# Altium footprint library PcbLib1.PcbLib: 95 footprints (part 4 of 6)
Each footprint in its own frame and in the unit in brackets; x right, y up, seen from the top. Pads: shape width x height; smd on the part's side, far side on the other; paste and mask are expansions set on the pad; w line width, h text height; cw(c..) or ccw(c..) is an arc to the next point about the centre after c.
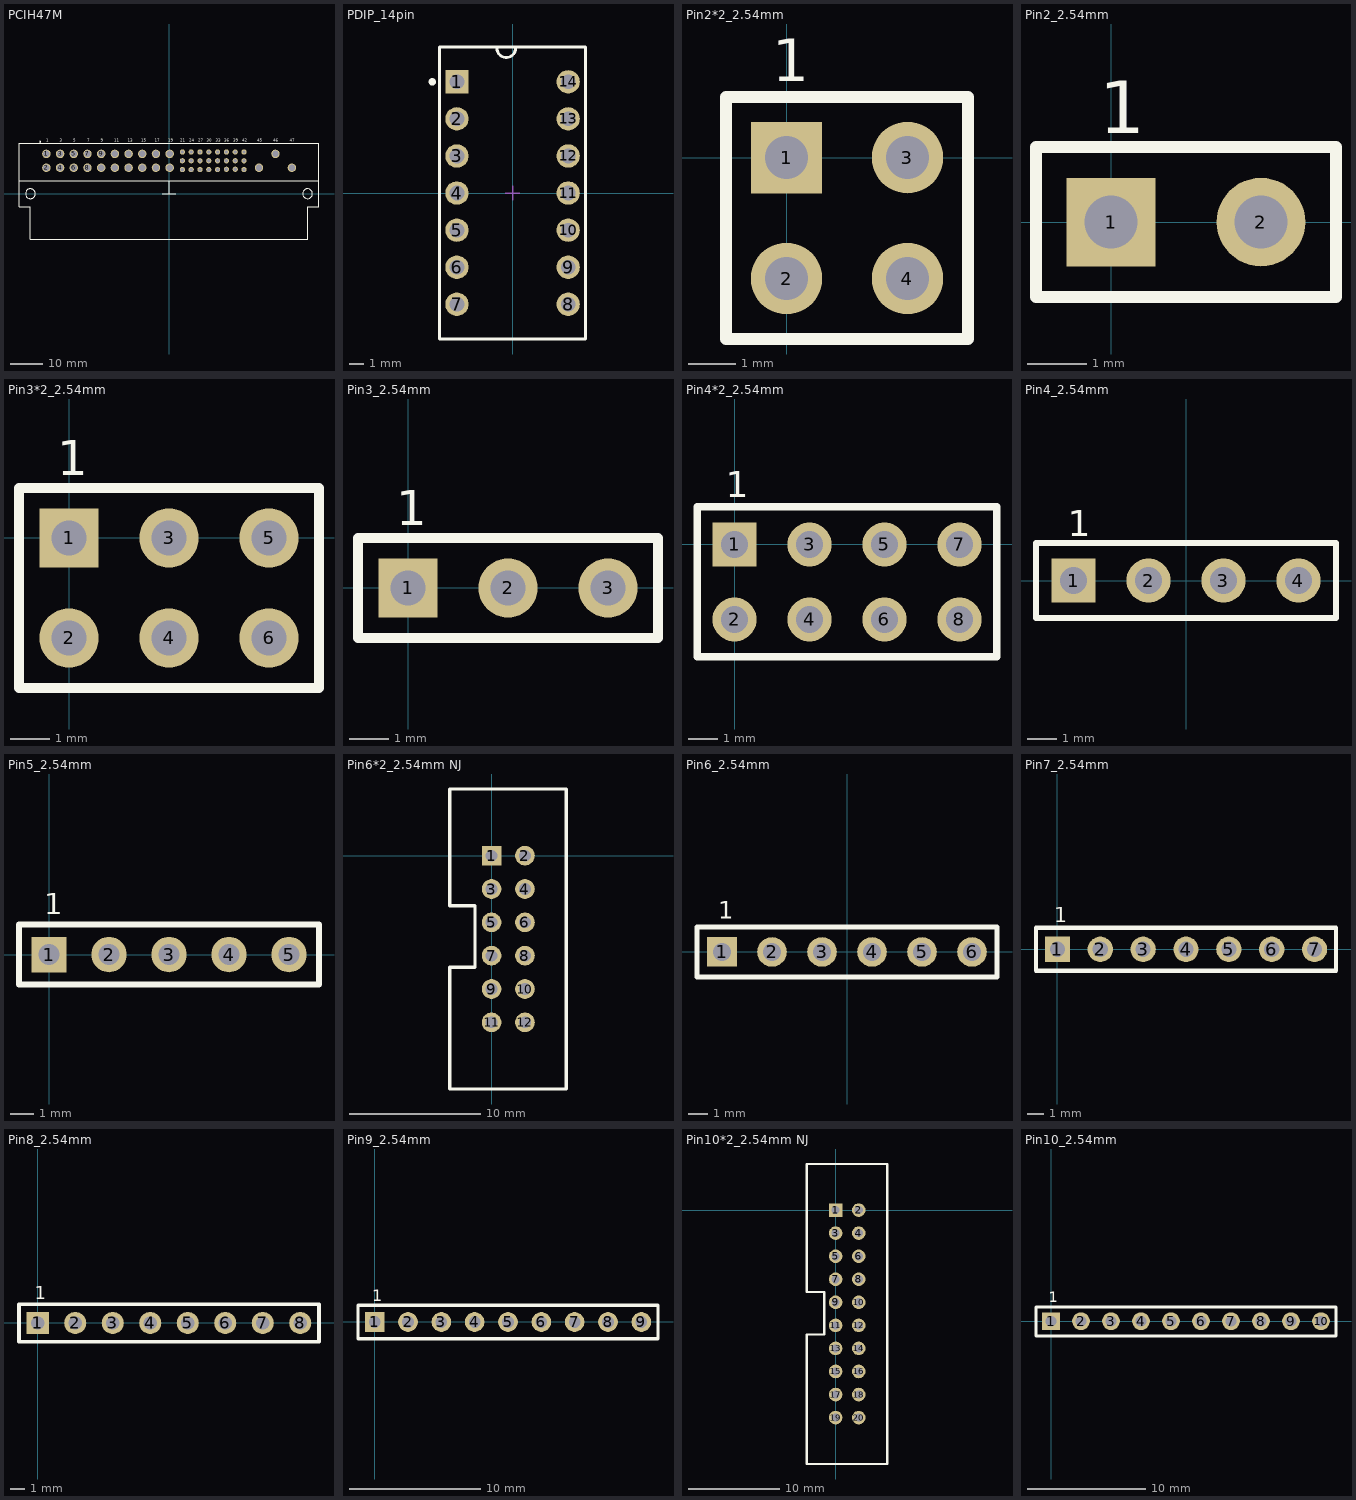
[diagram p3: the footprints below, top view; thin cyan lines are the x and y axes]

## PCIH47M [mm]
pads (47):
  round 2.6 hole 1.93: 1(-37.6,12.21) 2(-37.6,7.96) 3(-33.4,12.21) 4(-33.4,7.96) 5(-29.2,12.21) 6(-29.2,7.96) 7(-25,12.21) 8(-25,7.96) 9(-20.8,12.21) 10(-20.8,7.96) 11(-16.6,12.21) 12(-16.6,7.96) 13(-12.4,12.21) 14(-12.4,7.96) 15(-8.2,12.21) 16(-8.2,7.96) 17(-4,12.21) 18(-4,7.96) 19(0.2,12.21) 20(0.2,7.96) 45(27.6,7.96) 46(32.65,12.21) 47(37.7,7.96)
  round 1.6 hole 1.04: 21(4.1,12.79) 22(4.1,10.09) 23(4.1,7.39) 24(6.8,12.79) 25(6.8,10.09) 26(6.8,7.39) 27(9.5,12.79) 28(9.5,10.09) 29(9.5,7.39) 30(12.2,12.79) 31(12.2,10.09) 32(12.2,7.39) 33(14.9,12.79) 34(14.9,10.09) 35(14.9,7.39) 36(17.6,12.79) 37(17.6,10.09) 38(17.6,7.49) 39(20.3,12.79) 40(20.3,10.09) 41(20.3,7.49) 42(23,12.79) 43(23,10.09) 44(23,7.39)
Top Overlay:
  circle w0.254: c42.5,0 r1.5
  circle w0.254: c-42.5,0 r1.5
  circle w0.254: c-39.522,15.9 r0.127
  lines w0.254: -46,4 46,4 ; -2,0 2,0 ; 0,0 0,4 ; -46,-4 -42.5,-4 -42.5,-14 42.5,-14 42.5,-4 46,-4 46,15.5 -46,15.5 -46,-4
  text "1" at -37.6,16 h0.89
  text "3" at -33.444,16 h0.89
  text "5" at -29.289,16 h0.89
  text "7" at -25.133,16 h0.89
  text "9" at -20.978,16 h0.89
  text "11" at -16.822,16 h0.89
  text "13" at -12.667,16 h0.89
  text "15" at -8.511,16 h0.89
  text "17" at -4.356,16 h0.89
  text "19" at -0.2,16 h0.89
  text "21" at 3.5,16 h0.89
  text "24" at 6.2,16 h0.89
  text "27" at 8.9,16 h0.89
  text "30" at 11.6,16 h0.89
  text "33" at 14.3,16 h0.89
  text "36" at 17,16 h0.89
  text "39" at 19.7,16 h0.89
  text "42" at 22.4,16 h0.89
  text "46" at 32,16 h0.89
  text "45" at 27,16 h0.89
  text "47" at 37,16 h0.89

## PDIP_14pin [mm] "W7.62mm"
height 5
pads (14):
  rect 1.6x1.6 hole 1: 1(-3.81,7.62)
  round 1.6 hole 1: 2(-3.81,5.08) 3(-3.81,2.54) 4(-3.81,0) 5(-3.81,-2.54) 6(-3.81,-5.08) 7(-3.81,-7.62) 8(3.81,-7.62) 9(3.81,-5.08) 10(3.81,-2.54) 11(3.81,0) 12(3.81,2.54) 13(3.81,5.08) 14(3.81,7.62)
Top Overlay:
  circle w0.25: c-5.5,7.62 r0.125
  lines w0.2: -1.067,9.92 ccw(c-0.432,9.92) 0.203,9.92 ; -5,-10 5,-10 5,10 -5,10 -5,-10
Mechanical 15:
  lines w0.1: -0.5,0 0.5,0 ; 0,-0.5 0,0.5
3D body: height 2, standoff 0, extent -3.81,-9.779 3.81,9.881

## Pin2*2_2.54mm [mm]
pads (4):
  rect 1.5x1.5 hole 0.9: 1(0,0)
  round 1.5 hole 0.9: 2(0,-2.54) 3(2.54,0) 4(2.54,-2.54)
Top Overlay:
  lines w0.254: -1.27,-3.81 3.81,-3.81 3.81,1.27 -1.27,1.27 -1.27,-3.81
  text "1" at -0.3,1.6 h0.89
3D body: height 8, standoff -3, extent 2.286,-2.794 2.794,-2.286
3D body: height 8, standoff -3, extent -0.254,-2.794 0.254,-2.286
3D body: height 8, standoff -3, extent 2.286,-0.254 2.794,0.254
3D body: height 8, standoff -3, extent -0.254,-0.254 0.254,0.254
3D body: height 2.5, standoff 0, extent -1.016,-3.556 3.556,1.016

## Pin2_2.54mm [mm]
pads (2):
  rect 1.5x1.5 hole 0.9: 1(0,0)
  round 1.5 hole 0.9: 2(2.54,0)
Top Overlay:
  lines w0.2: -1.27,-1.27 3.81,-1.27 3.81,1.27 -1.27,1.27 -1.27,-1.27
  text "1" at -0.2,1.5 h0.89
3D body: height 2.5, standoff 0, extent -1.143,-1.143 3.683,1.143
3D body: height 8, standoff -3, extent -0.254,-0.254 0.254,0.254
3D body: height 8, standoff -3, extent 2.286,-0.254 2.794,0.254

## Pin3*2_2.54mm [mm]
pads (6):
  rect 1.5x1.5 hole 0.9: 1(0,0)
  round 1.5 hole 0.9: 2(0,-2.54) 3(2.54,0) 4(2.54,-2.54) 5(5.08,0) 6(5.08,-2.54)
Top Overlay:
  lines w0.254: -1.27,-3.81 6.35,-3.81 6.35,1.27 -1.27,1.27 -1.27,-3.81
  text "1" at -0.3,1.6 h0.89
3D body: height 8, standoff -3, extent 4.826,-2.794 5.334,-2.286
3D body: height 8, standoff -3, extent 2.286,-2.794 2.794,-2.286
3D body: height 8, standoff -3, extent -0.254,-2.794 0.254,-2.286
3D body: height 8, standoff -3, extent 4.826,-0.254 5.334,0.254
3D body: height 8, standoff -3, extent 2.286,-0.254 2.794,0.254
3D body: height 8, standoff -3, extent -0.254,-0.254 0.254,0.254
3D body: height 2.5, standoff 0, extent -1.016,-3.556 6.096,1.016

## Pin3_2.54mm [mm]
pads (3):
  rect 1.5x1.5 hole 0.9: 1(0,0)
  round 1.5 hole 0.9: 2(2.54,0) 3(5.08,0)
Top Overlay:
  lines w0.254: -1.27,-1.27 -1.27,1.27 6.35,1.27 6.35,-1.27 -1.27,-1.27
  text "1" at -0.3,1.6 h0.89
3D body: height 8, standoff -3, extent 4.826,-0.254 5.334,0.254
3D body: height 8, standoff -3, extent 2.286,-0.254 2.794,0.254
3D body: height 8, standoff -3, extent -0.254,-0.254 0.254,0.254
3D body: height 2.5, standoff 0, extent -1.016,-1.016 6.096,1.016

## Pin4*2_2.54mm [mm]
pads (8):
  rect 1.5x1.5 hole 0.9: 1(0,0)
  round 1.5 hole 0.9: 2(0,-2.54) 3(2.54,0) 4(2.54,-2.54) 5(5.08,0) 6(5.08,-2.54) 7(7.62,0) 8(7.62,-2.54)
Top Overlay:
  lines w0.254: -1.27,-3.81 -1.27,1.27 8.89,1.27 8.89,-3.81 -1.27,-3.81
  text "1" at -0.3,1.6 h0.89
3D body: height 8, standoff -3, extent 7.366,-2.794 7.874,-2.286
3D body: height 8, standoff -3, extent 7.366,-0.254 7.874,0.254
3D body: height 2.5, standoff 0, extent -1.016,-3.556 8.636,1.016
3D body: height 8, standoff -3, extent -0.254,-0.254 0.254,0.254
3D body: height 8, standoff -3, extent 2.286,-0.254 2.794,0.254
3D body: height 8, standoff -3, extent 4.826,-0.254 5.334,0.254
3D body: height 8, standoff -3, extent -0.254,-2.794 0.254,-2.286
3D body: height 8, standoff -3, extent 2.286,-2.794 2.794,-2.286
3D body: height 8, standoff -3, extent 4.826,-2.794 5.334,-2.286

## Pin4_2.54mm [mm]
pads (4):
  rect 1.5x1.5 hole 0.9: 1(-3.81,0)
  round 1.5 hole 0.9: 2(-1.27,0) 3(1.27,0) 4(3.81,0)
Top Overlay:
  lines w0.2: -5.08,-1.27 5.08,-1.27 5.08,1.27 -5.08,1.27 -5.08,-1.27
  text "1" at -4.01,1.5 h0.89
3D body: height 8, standoff -3, extent -4.064,-0.254 -3.556,0.254
3D body: height 8, standoff -3, extent -1.524,-0.254 -1.016,0.254
3D body: height 8, standoff -3, extent 1.016,-0.254 1.524,0.254
3D body: height 8, standoff -3, extent 3.556,-0.254 4.064,0.254
3D body: height 2.5, standoff 0, extent -4.826,-1.143 4.826,1.143

## Pin5_2.54mm [mm]
pads (5):
  rect 1.5x1.5 hole 0.9: 1(0,0)
  round 1.5 hole 0.9: 2(2.54,0) 3(5.08,0) 4(7.62,0) 5(10.16,0)
Top Overlay:
  lines w0.254: -1.27,-1.27 -1.27,1.27 11.43,1.27 11.43,-1.27 -1.27,-1.27
  text "1" at -0.2,1.7 h0.89
3D body: height 2.5, standoff 0, extent -1.016,-1.016 11.176,1.016
3D body: height 8, standoff -3, extent -0.254,-0.254 0.254,0.254
3D body: height 8, standoff -3, extent 2.286,-0.254 2.794,0.254
3D body: height 8, standoff -3, extent 4.826,-0.254 5.334,0.254
3D body: height 8, standoff -3, extent 7.366,-0.254 7.874,0.254
3D body: height 8, standoff -3, extent 9.906,-0.254 10.414,0.254

## Pin6*2_2.54mm NJ [mm]
pads (12):
  rect 1.5x1.5 hole 0.9: 1(0,0)
  round 1.5 hole 0.9: 2(2.54,0) 3(0,-2.54) 4(2.54,-2.54) 5(0,-5.08) 6(2.54,-5.08) 7(0,-7.62) 8(2.54,-7.62) 9(0,-10.16) 10(2.54,-10.16) 11(0,-12.7) 12(2.54,-12.7)
Top Overlay:
  lines w0.254: -3.2,-17.78 -3.2,-8.493 -1.27,-8.493 -1.27,-3.81 -3.2,-3.81 -3.2,5.08 5.7,5.08 5.7,-17.78 -3.2,-17.78
3D body: height 8, standoff -3, extent -0.279,-0.254 0.28,0.254
3D body: height 8, standoff -3, extent 2.261,-2.794 2.819,-2.286
3D body: height 8, standoff -3, extent 2.261,-0.254 2.819,0.254
3D body: height 8, standoff -3, extent -0.279,-2.794 0.279,-2.286
3D body: height 8, standoff -3, extent -0.279,-5.334 0.279,-4.826
3D body: height 8, standoff -3, extent 2.261,-5.334 2.819,-4.826
3D body: height 8, standoff -3, extent -0.279,-7.874 0.279,-7.366
3D body: height 8, standoff -3, extent 2.261,-7.874 2.819,-7.366
3D body: height 8, standoff -3, extent 2.261,-10.414 2.819,-9.906
3D body: height 8, standoff -3, extent -0.279,-10.414 0.28,-9.906
3D body: height 8, standoff -3, extent -0.279,-12.954 0.279,-12.446
3D body: height 8, standoff -3, extent 2.261,-12.954 2.82,-12.446

## Pin6_2.54mm [mm]
pads (6):
  rect 1.5x1.5 hole 0.9: 1(-6.35,0)
  round 1.5 hole 0.9: 2(-3.81,0) 3(-1.27,0) 4(1.27,0) 5(3.81,0) 6(6.35,0)
Top Overlay:
  lines w0.254: -7.62,-1.27 -7.62,1.27 7.62,1.27 7.62,-1.27 -7.62,-1.27
  text "1" at -6.55,1.7 h0.89
3D body: height 2.5, standoff 0, extent -7.366,-1.016 7.366,1.016
3D body: height 8, standoff -3, extent -6.604,-0.254 -6.096,0.254
3D body: height 8, standoff -3, extent -4.064,-0.254 -3.556,0.254
3D body: height 8, standoff -3, extent -1.524,-0.254 -1.016,0.254
3D body: height 8, standoff -3, extent 1.016,-0.254 1.524,0.254
3D body: height 8, standoff -3, extent 3.556,-0.254 4.064,0.254
3D body: height 8, standoff -3, extent 6.096,-0.254 6.604,0.254

## Pin7_2.54mm [mm]
pads (7):
  rect 1.5x1.5 hole 0.9: 1(0,0)
  round 1.5 hole 0.9: 2(2.54,0) 3(5.08,0) 4(7.62,0) 5(10.16,0) 6(12.7,0) 7(15.24,0)
Top Overlay:
  lines w0.254: -1.27,-1.27 -1.27,1.27 16.51,1.27 16.51,-1.27 -1.27,-1.27
  text "1" at -0.2,1.6 h0.89
3D body: height 8, standoff -3, extent -0.254,-0.254 0.254,0.254
3D body: height 8, standoff -3, extent 2.286,-0.254 2.794,0.254
3D body: height 8, standoff -3, extent 4.826,-0.254 5.334,0.254
3D body: height 8, standoff -3, extent 7.366,-0.254 7.874,0.254
3D body: height 8, standoff -3, extent 9.906,-0.254 10.414,0.254
3D body: height 8, standoff -3, extent 12.446,-0.254 12.954,0.254
3D body: height 8, standoff -3, extent 14.986,-0.254 15.494,0.254
3D body: height 2.5, standoff 0, extent -1.016,-1.016 16.256,1.016

## Pin8_2.54mm [mm]
pads (8):
  rect 1.5x1.5 hole 0.9: 1(0,0)
  round 1.5 hole 0.9: 2(2.54,0) 3(5.08,0) 4(7.62,0) 5(10.16,0) 6(12.7,0) 7(15.24,0) 8(17.78,0)
Top Overlay:
  lines w0.254: -1.27,-1.27 19.05,-1.27 19.05,1.27 -1.27,1.27 -1.27,-1.27
  text "1" at -0.2,1.6 h0.89
3D body: height 8, standoff -3, extent 14.884,-0.305 15.392,0.203
3D body: height 2.5, standoff 0, extent -1.016,-1.041 18.847,1.016
3D body: height 8, standoff -3, extent 17.526,-0.254 18.034,0.254
3D body: height 8, standoff -3, extent 12.446,-0.254 12.954,0.254
3D body: height 8, standoff -3, extent 9.906,-0.254 10.414,0.254
3D body: height 8, standoff -3, extent 7.366,-0.254 7.874,0.254
3D body: height 8, standoff -3, extent 4.826,-0.254 5.334,0.254
3D body: height 8, standoff -3, extent 2.286,-0.254 2.794,0.254
3D body: height 8, standoff -3, extent -0.254,-0.254 0.254,0.254

## Pin9_2.54mm [mm]
pads (9):
  rect 1.5x1.5 hole 0.9: 1(0,0)
  round 1.5 hole 0.9: 2(2.54,0) 3(5.08,0) 4(7.62,0) 5(10.16,0) 6(12.7,0) 7(15.24,0) 8(17.78,0) 9(20.32,0)
Top Overlay:
  lines w0.254: -1.27,-1.27 -1.27,1.27 21.59,1.27 21.59,-1.27 -1.27,-1.27
  text "1" at -0.2,1.6 h0.89
3D body: height 8, standoff -3, extent 20.066,-0.254 20.574,0.254
3D body: height 8, standoff -3, extent 17.526,-0.254 18.034,0.254
3D body: height 8, standoff -3, extent 14.986,-0.254 15.494,0.254
3D body: height 8, standoff -3, extent 12.446,-0.254 12.954,0.254
3D body: height 8, standoff -3, extent 9.906,-0.254 10.414,0.254
3D body: height 8, standoff -3, extent 7.366,-0.254 7.874,0.254
3D body: height 8, standoff -3, extent 4.826,-0.254 5.334,0.254
3D body: height 8, standoff -3, extent 2.286,-0.254 2.794,0.254
3D body: height 8, standoff -3, extent -0.254,-0.254 0.254,0.254
3D body: height 2.5, standoff 0, extent -1.016,-1.016 21.336,1.016

## Pin10*2_2.54mm NJ [mm]
pads (20):
  rect 1.5x1.5 hole 0.9: 1(0,0)
  round 1.5 hole 0.9: 2(2.54,0) 3(0,-2.54) 4(2.54,-2.54) 5(0,-5.08) 6(2.54,-5.08) 7(0,-7.62) 8(2.54,-7.62) 9(0,-10.16) 10(2.54,-10.16) 11(0,-12.7) 12(2.54,-12.7) 13(0,-15.24) 14(2.54,-15.24) 15(0,-17.78) 16(2.54,-17.78) 17(0,-20.32) 18(2.54,-20.32) 19(0,-22.86) 20(2.54,-22.86)
Top Overlay:
  lines w0.254: -3.2,-27.975 5.7,-27.975 5.7,5.08 -3.2,5.08 -3.2,-9.017 -1.27,-9.017 -1.27,-13.7 -3.2,-13.7 -3.2,-27.975
3D body: height 8, standoff -3, extent 2.261,-23.114 2.819,-22.606
3D body: height 8, standoff -3, extent -0.279,-23.114 0.279,-22.606
3D body: height 8, standoff -3, extent 2.261,-20.574 2.819,-20.066
3D body: height 8, standoff -3, extent -0.279,-20.574 0.279,-20.066
3D body: height 8, standoff -3, extent 2.261,-18.034 2.82,-17.526
3D body: height 8, standoff -3, extent -0.279,-18.034 0.28,-17.526
3D body: height 8, standoff -3, extent -0.279,-15.494 0.279,-14.986
3D body: height 8, standoff -3, extent 2.261,-15.494 2.819,-14.986
3D body: height 8, standoff -3, extent 2.261,-12.954 2.82,-12.446
3D body: height 8, standoff -3, extent -0.279,-12.954 0.279,-12.446
3D body: height 8, standoff -3, extent -0.279,-10.414 0.28,-9.906
3D body: height 8, standoff -3, extent 2.261,-10.414 2.819,-9.906
3D body: height 8, standoff -3, extent 2.261,-7.874 2.819,-7.366
3D body: height 8, standoff -3, extent -0.279,-7.874 0.279,-7.366
3D body: height 8, standoff -3, extent 2.261,-5.334 2.819,-4.826
3D body: height 8, standoff -3, extent -0.279,-5.334 0.279,-4.826
3D body: height 8, standoff -3, extent -0.279,-2.794 0.279,-2.286
3D body: height 8, standoff -3, extent 2.261,-0.254 2.819,0.254
3D body: height 8, standoff -3, extent 2.261,-2.794 2.819,-2.286
3D body: height 8, standoff -3, extent -0.279,-0.254 0.28,0.254

## Pin10_2.54mm [mm]
pads (10):
  rect 1.5x1.5 hole 0.9: 1(0,0)
  round 1.5 hole 0.9: 2(2.54,0) 3(5.08,0) 4(7.62,0) 5(10.16,0) 6(12.7,0) 7(15.24,0) 8(17.78,0) 9(20.32,0) 10(22.86,0)
Top Overlay:
  lines w0.254: -1.27,-1.27 24.13,-1.27 24.13,1.219 -1.27,1.219 -1.27,-1.27
  text "1" at -0.2,1.6 h0.89
3D body: height 8, standoff -3, extent 22.606,-0.254 23.114,0.254
3D body: height 8, standoff -3, extent 19.914,-0.66 20.422,-0.152
3D body: height 2.5, standoff 0, extent -1.016,-1.016 23.876,1.016
3D body: height 8, standoff -3, extent -0.254,-0.254 0.254,0.254
3D body: height 8, standoff -3, extent 2.286,-0.254 2.794,0.254
3D body: height 8, standoff -3, extent 4.826,-0.254 5.334,0.254
3D body: height 8, standoff -3, extent 7.366,-0.254 7.874,0.254
3D body: height 8, standoff -3, extent 9.906,-0.254 10.414,0.254
3D body: height 8, standoff -3, extent 12.446,-0.254 12.954,0.254
3D body: height 8, standoff -3, extent 14.986,-0.254 15.494,0.254
3D body: height 8, standoff -3, extent 17.526,-0.254 18.034,0.254
3D body: height 8, standoff -3, extent 20.066,-0.254 20.574,0.254